# Altium schematic symbol library 74xx_IEEE.SchLib: 185 symbols (part 2 of 2)
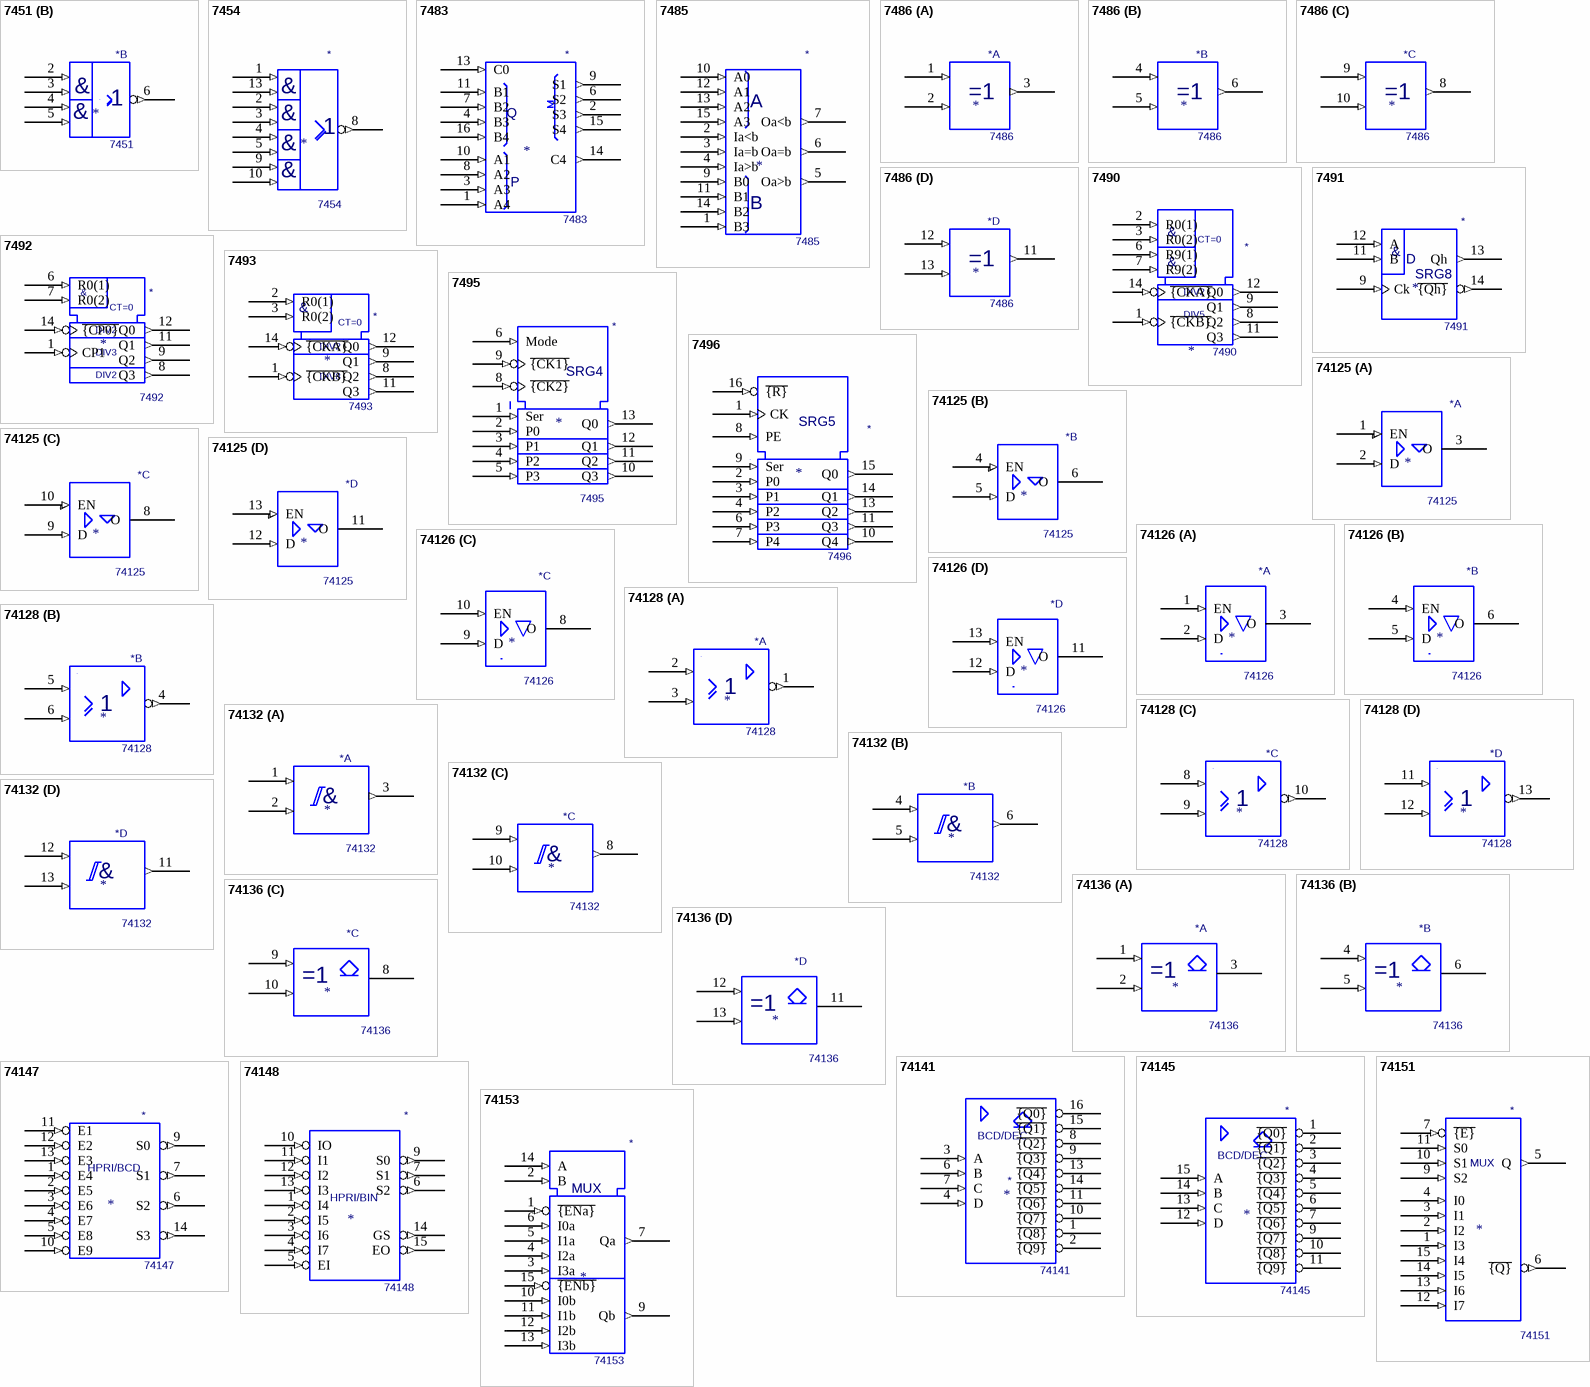
[diagram p9: symbols 7451 to 74153]

## 74136
designator *  value 74136
part A pins: 1 (in), 2 (in), 3 (oc), 7 Gnd (power) hidden, 14 Vcc (power) hidden
part B pins: 4 (in), 5 (in), 6 (oc), 7 Gnd (power) hidden, 14 Vcc (power) hidden
part C pins: 7 Gnd (power) hidden, 8 (oc), 9 (in), 10 (in), 14 Vcc (power) hidden
part D pins: 7 Gnd (power) hidden, 11 (oc), 12 (in), 13 (in), 14 Vcc (power) hidden

## 74141
designator *  value 74141
pins: 1 ~{{Q8}} (oc), 2 ~{{Q9}} (oc), 3 A (in), 4 D (in), 5 VCC (power) hidden, 6 B (in), 7 C (in), 8 ~{{Q2}} (oc), 9 ~{{Q3}} (oc), 10 ~{{Q7}} (oc), 11 ~{{Q6}} (oc), 12 GND (power) hidden, 13 ~{{Q4}} (oc), 14 ~{{Q5}} (oc), 15 ~{{Q1}} (oc), 16 ~{{Q0}} (oc)
text: BCD/DEC

## 74145
designator *  value 74145
pins: 1 ~{{Q0}} (oc), 2 ~{{Q1}} (oc), 3 ~{{Q2}} (oc), 4 ~{{Q3}} (oc), 5 ~{{Q4}} (oc), 6 ~{{Q5}} (oc), 7 ~{{Q6}} (oc), 8 GND (power) hidden, 9 ~{{Q7}} (oc), 10 ~{{Q8}} (oc), 11 ~{{Q9}} (oc), 12 D (in), 13 C (in), 14 B (in), 15 A (in), 16 VCC (power) hidden
text: BCD/DEC

## 74147
designator *  value 74147
pins: 1 E4 (in), 2 E5 (in), 3 E6 (in), 4 E7 (in), 5 E8 (in), 6 S2 (out), 7 S1 (out), 8 GND (power) hidden, 9 S0 (out), 10 E9 (in), 11 E1 (in), 12 E2 (in), 13 E3 (in), 14 S3 (out), 16 VCC (power) hidden
text: HPRI/BCD

## 74148
designator *  value 74148
pins: 1 I4 (in), 2 I5 (in), 3 I6 (in), 4 I7 (in), 5 EI (in), 6 S2 (out), 7 S1 (out), 8 GND (power) hidden, 9 S0 (out), 10 IO (in), 11 I1 (in), 12 I2 (in), 13 I3 (in), 14 GS (out), 15 EO (out), 16 VCC (power) hidden
text: HPRI/BIN

## 74151
designator *  value 74151
pins: 1 I3 (in), 2 I2 (in), 3 I1 (in), 4 I0 (in), 5 Q (out), 6 ~{{Q}} (out), 7 ~{{E}} (in), 8 GND (power) hidden, 9 S2 (in), 10 S1 (in), 11 S0 (in), 12 I7 (in), 13 I6 (in), 14 I5 (in), 15 I4 (in), 16 VCC (power) hidden
text: MUX

## 74153
designator *  value 74153
pins: 1 ~{{ENa}} (in), 2 B (in), 3 I3a (in), 4 I2a (in), 5 I1a (in), 6 I0a (in), 7 Qa (out), 8 GND (power) hidden, 9 Qb (out), 10 I0b (in), 11 I1b (in), 12 I2b (in), 13 I3b (in), 14 A (in), 15 ~{{ENb}} (in), 16 VCC (power) hidden
text: MUX

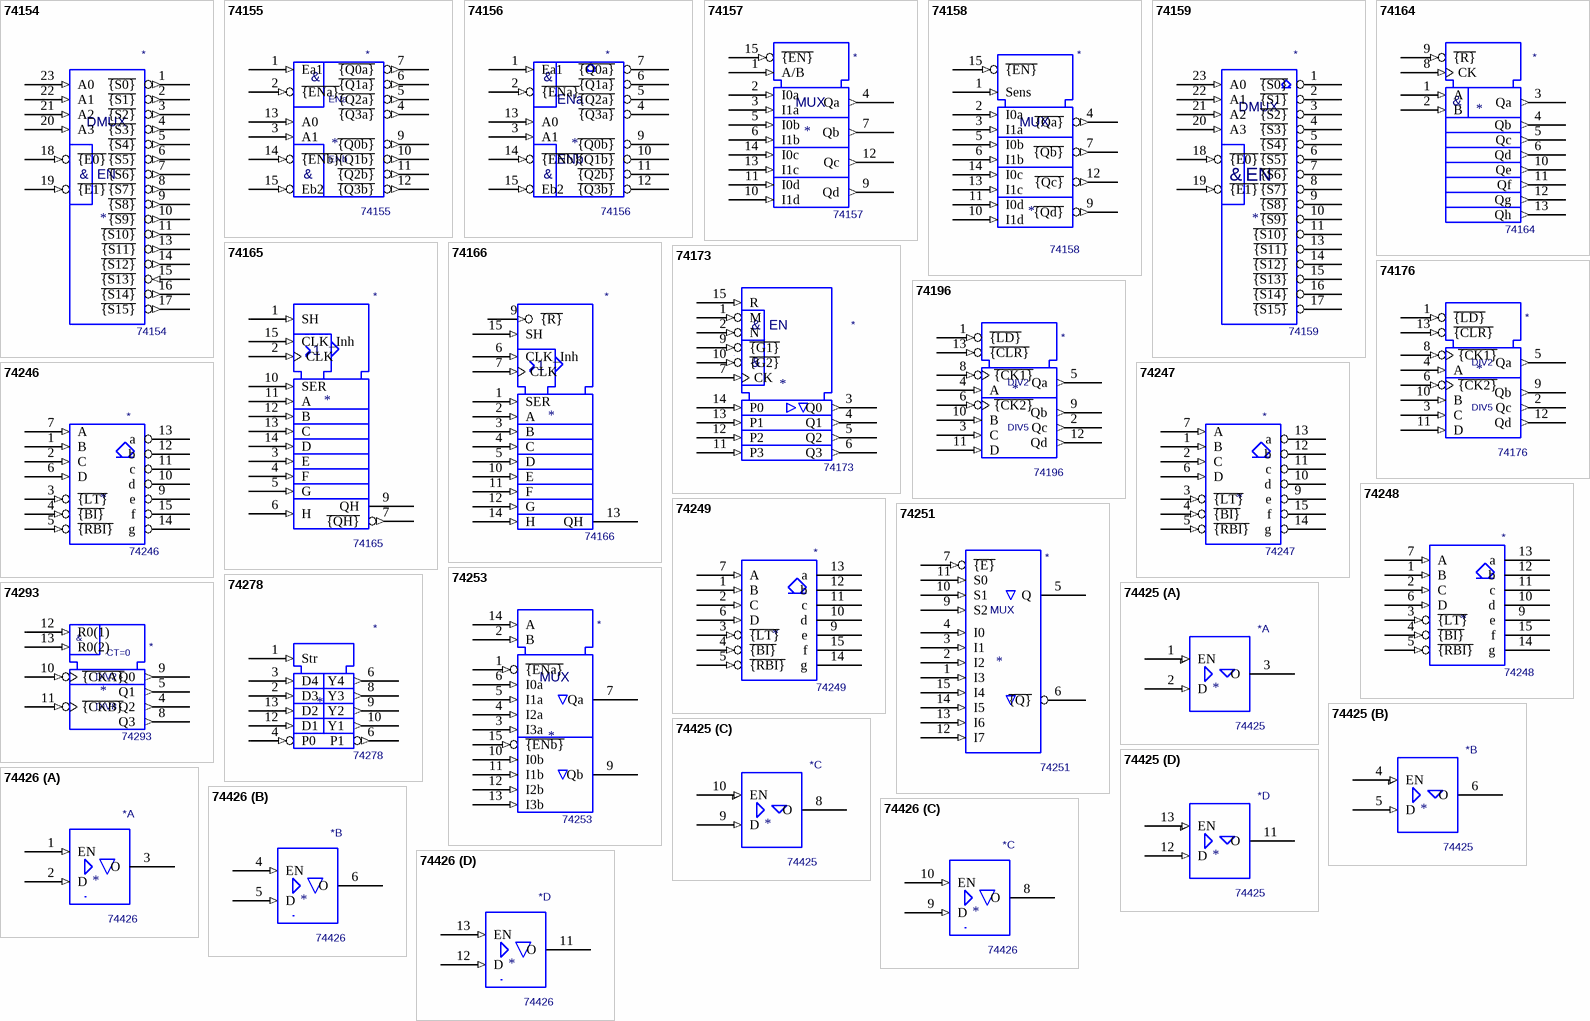
[diagram p8: symbols 74154 to 74426]

## 74154
designator *  value 74154
pins: 1 ~{{S0}} (out), 2 ~{{S1}} (out), 3 ~{{S2}} (out), 4 ~{{S3}} (out), 5 ~{{S4}} (out), 6 ~{{S5}} (out), 7 ~{{S6}} (out), 8 ~{{S7}} (out), 9 ~{{S8}} (out), 10 ~{{S9}} (out), 11 ~{{S10}} (out), 12 GND (power) hidden, 13 ~{{S11}} (out), 14 ~{{S12}} (out), 15 ~{{S13}} (in), 16 ~{{S14}} (out), 17 ~{{S15}} (out), 18 ~{{E0}} (in), 19 ~{{E1}} (in), 20 A3 (in), 21 A2 (in), 22 A1 (in), 23 A0 (in), 24 VCC (power) hidden
text: DMUX; &; EN

## 74155
designator *  value 74155
pins: 1 Ea1 (in), 2 ~{{ENa}} (in), 3 A1 (in), 4 ~{{Q3a}} (out), 5 ~{{Q2a}} (out), 6 ~{{Q1a}} (out), 7 ~{{Q0a}} (out), 8 GND (power) hidden, 9 ~{{Q0b}} (out), 10 ~{{Q1b}} (out), 11 ~{{Q2b}} (out), 12 ~{{Q3b}} (out), 13 A0 (in), 14 ~{{ENb}} (in), 15 Eb2 (in), 16 VCC (power) hidden
text: &; ENa; ENb

## 74156
designator *  value 74156
pins: 1 Ea1 (in), 2 ~{{ENa}} (in), 3 A1 (in), 4 ~{{Q3a}} (oc), 5 ~{{Q2a}} (oc), 6 ~{{Q1a}} (oc), 7 ~{{Q0a}} (oc), 8 GND (power) hidden, 9 ~{{Q0b}} (oc), 10 ~{{Q1b}} (oc), 11 ~{{Q2b}} (oc), 12 ~{{Q3b}} (oc), 13 A0 (in), 14 ~{{ENb}} (in), 15 Eb2 (in), 16 VCC (power) hidden
text: &; ENa; ENb

## 74157
designator *  value 74157
pins: 1 A/B (in), 2 I0a (in), 3 I1a (in), 4 Qa (out), 5 I0b (in), 6 I1b (in), 7 Qb (out), 8 GND (power) hidden, 9 Qd (out), 10 I1d (in), 11 I0d (in), 12 Qc (out), 13 I1c (in), 14 I0c (in), 15 ~{{EN}} (in), 16 VCC (power) hidden
text: MUX

## 74158
designator *  value 74158
pins: 1 Sens (in), 2 I0a (in), 3 I1a (in), 4 ~{{Qa}} (out), 5 I0b (in), 6 I1b (in), 7 ~{{Qb}} (out), 8 GND (power) hidden, 9 ~{{Qd}} (out), 10 I1d (in), 11 I0d (in), 12 ~{{Qc}} (out), 13 I1c (in), 14 I0c (in), 15 ~{{EN}} (in), 16 VCC (power) hidden
text: MUX

## 74159
designator *  value 74159
pins: 1 ~{{S0}} (oc), 2 ~{{S1}} (oc), 3 ~{{S2}} (oc), 4 ~{{S3}} (oc), 5 ~{{S4}} (oc), 6 ~{{S5}} (oc), 7 ~{{S6}} (oc), 8 ~{{S7}} (oc), 9 ~{{S8}} (oc), 10 ~{{S9}} (oc), 11 ~{{S10}} (oc), 12 GND (power) hidden, 13 ~{{S11}} (oc), 14 ~{{S12}} (oc), 15 ~{{S13}} (oc), 16 ~{{S14}} (oc), 17 ~{{S15}} (oc), 18 ~{{E0}} (in), 19 ~{{E1}} (in), 20 A3 (in), 21 A2 (in), 22 A1 (in), 23 A0 (in), 24 VCC (power) hidden
text: DMUX; &; EN

## 74164
designator *  value 74164
pins: 1 A (in), 2 B (in), 3 Qa (out), 4 Qb (out), 5 Qc (out), 6 Qd (out), 7 Vss (power) hidden, 8 CK (in), 9 ~{{R}} (in), 10 Qe (out), 11 Qf (out), 12 Qg (out), 13 Qh (out), 14 Vdd (power) hidden
text: &

## 74165
designator *  value 74165
pins: 1 SH (in), 2 CLK (in), 3 E (in), 4 F (in), 5 G (in), 6 H (in), 7 ~{{QH}} (out), 8 GND (power) hidden, 9 QH (hiz), 10 SER (in), 11 A (in), 12 B (in), 13 C (in), 14 D (in), 15 CLK_Inh (in), 16 VCC (power) hidden

## 74166
designator *  value 74166
pins: 1 SER (in), 2 A (in), 3 B (in), 4 C (in), 5 D (in), 6 CLK_Inh (in), 7 CLK (in), 8 GND (power) hidden, 9 ~{{R}} (in), 10 E (in), 11 F (in), 12 G (in), 13 QH (hiz), 14 H (in), 15 SH (in), 16 VCC (power) hidden

## 74173
designator *  value 74173
pins: 1 M (in), 2 N (in), 3 Q0 (out), 4 Q1 (out), 5 Q2 (out), 6 Q3 (out), 7 CK (in), 8 GND (power) hidden, 9 ~{{G1}} (in), 10 ~{{G2}} (in), 11 P3 (in), 12 P2 (in), 13 P1 (in), 14 P0 (in), 15 R (in), 16 VCC (power) hidden
text: &; EN

## 74176
designator *  value 74176
pins: 1 ~{{LD}} (in), 2 Qc (out), 3 C (in), 4 A (in), 5 Qa (out), 6 ~{{CK2}} (in), 7 Gnd (power) hidden, 8 ~{{CK1}} (in), 9 Qb (out), 10 B (in), 11 D (in), 12 Qd (out), 13 ~{{CLR}} (in), 14 Vcc (power) hidden
text: DIV2; DIV5

## 74196
designator *  value 74196
pins: 1 ~{{LD}} (in), 2 Qc (out), 3 C (in), 4 A (in), 5 Qa (out), 6 ~{{CK2}} (in), 7 Gnd (power) hidden, 8 ~{{CK1}} (in), 9 Qb (out), 10 B (in), 11 D (in), 12 Qd (out), 13 ~{{CLR}} (in), 14 Vcc (power) hidden
text: DIV2; DIV5

## 74246
designator *  value 74246
pins: 1 B (in), 2 C (in), 3 ~{{LT}} (in), 4 ~{{BI}} (in), 5 ~{{RBI}} (in), 6 D (in), 7 A (in), 8 GND (power) hidden, 9 e (oc), 10 d (oc), 11 c (oc), 12 b (oc), 13 a (oc), 14 g (oc), 15 f (oc), 16 VCC (power) hidden

## 74247
designator *  value 74247
pins: 1 B (in), 2 C (in), 3 ~{{LT}} (in), 4 ~{{BI}} (in), 5 ~{{RBI}} (in), 6 D (in), 7 A (in), 8 GND (power) hidden, 9 e (oc), 10 d (oc), 11 c (oc), 12 b (oc), 13 a (oc), 14 g (oc), 15 f (oc), 16 VCC (power) hidden

## 74248
designator *  value 74248
pins: 1 B (in), 2 C (in), 3 ~{{LT}} (in), 4 ~{{BI}} (in), 5 ~{{RBI}} (in), 6 D (in), 7 A (in), 8 GND (power) hidden, 9 e (oc), 10 d (oc), 11 c (oc), 12 b (oc), 13 a (oc), 14 g (oc), 15 f (oc), 16 VCC (power) hidden

## 74249
designator *  value 74249
pins: 1 B (in), 2 C (in), 3 ~{{LT}} (in), 4 ~{{BI}} (in), 5 ~{{RBI}} (in), 6 D (in), 7 A (in), 8 GND (power) hidden, 9 e (oc), 10 d (oc), 11 c (oc), 12 b (oc), 13 a (oc), 14 g (oc), 15 f (oc), 16 VCC (power) hidden

## 74251
designator *  value 74251
pins: 1 I3 (in), 2 I2 (in), 3 I1 (in), 4 I0 (in), 5 Q (hiz), 6 ~{{Q}} (hiz), 7 ~{{E}} (in), 8 GND (power) hidden, 9 S2 (in), 10 S1 (in), 11 S0 (in), 12 I7 (in), 13 I6 (in), 14 I5 (in), 15 I4 (in), 16 VCC (power) hidden
text: MUX

## 74253
designator *  value 74253
pins: 1 ~{{ENa}} (in), 2 B (in), 3 I3a (in), 4 I2a (in), 5 I1a (in), 6 I0a (in), 7 Qa (hiz), 8 GND (power) hidden, 9 Qb (hiz), 10 I0b (in), 11 I1b (in), 12 I2b (in), 13 I3b (in), 14 A (in), 15 ~{{ENb}} (in), 16 VCC (power) hidden
text: MUX

## 74278
designator *  value 74278
pins: 1 Str (in), 2 D3 (in), 3 D4 (in), 4 P0 (in), 6 Y4 (out), 6 P1 (out), 7 Gnd (power) hidden, 8 Y3 (out), 9 Y2 (out), 10 Y1 (out), 12 D1 (in), 13 D2 (in), 14 VCC (power) hidden

## 74293
designator *  value 74293
pins: 4 Q2 (out), 5 Q1 (out), 7 GND (in) hidden, 8 Q3 (out), 9 Q0 (out), 10 ~{{CKA}} (in), 11 ~{{CKB}} (in), 12 R0(1) (in), 13 R0(2) (in), 14 VCC (power) hidden
text: &; CT=0; DIV2; DIV8

## 74425
designator *  value 74425
part A pins: 1 EN (in), 2 D (in), 3 O (hiz), 7 GND (power) hidden, 14 VCC (power) hidden
part B pins: 4 EN (in), 5 D (in), 6 O (hiz), 7 GND (power) hidden, 14 VCC (power) hidden
part C pins: 7 GND (power) hidden, 8 O (hiz), 9 D (in), 10 EN (in), 14 VCC (power) hidden
part D pins: 7 GND (power) hidden, 11 O (hiz), 12 D (in), 13 EN (in), 14 VCC (power) hidden

## 74426
designator *  value 74426
part A pins: 1 EN (in), 2 D (in), 3 O (hiz), 7 GND (power) hidden, 14 VCC (power) hidden
part B pins: 4 EN (in), 5 D (in), 6 O (hiz), 7 GND (power) hidden, 14 VCC (power) hidden
part C pins: 7 GND (power) hidden, 8 O (hiz), 9 D (in), 10 EN (in), 14 VCC (power) hidden
part D pins: 7 GND (power) hidden, 11 O (hiz), 12 D (in), 13 EN (in), 14 VCC (power) hidden